# EAGLE library part LM22672 (library m_vreg)
LM22672 1A SIMPLE SWITCHER, Step-Down Voltage Regulator Features: Wide input voltage range: 4.5V to 42V Internally compensated voltage mode control Stable with low ESR ceramic capacitors 200 mΩ N-channel MOSFET Output voltage options: -ADJ (outputs as low as 1.285V) -5.0 (output fixed to 5V) ±1.5% feedback reference accuracy Switching frequency of 500 kHz, adjustable between 200 kHz and 1 MHz -40°C to 125°C operating junction temperature range Precision enable pin Integrated boot diode Adjustable soft-start Fully WEBENCH® enabled Step-down and inverting buck-boost applications LM22672Q is an Automotive Grade product that is AEC- Q100 grade 1 qualified (-40°C to +125°C operating junction temperature) Added 6/5/2012
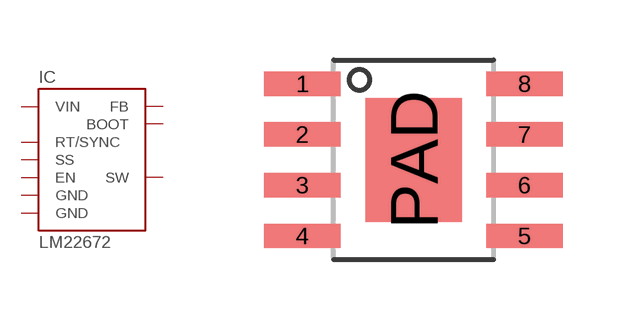
[diagram p7: symbol with the pads of PSOP-8; footprint PSOP-8]

Designator prefix IC

## LM22672MR (MANUF: TI; PARTNUM: LM22672XMRX-XXX)  [PSOP-8]
1  BOOT
2  SS
3  RT/SYNC
4  FB
5  EN
6  GND
7  VIN
8  SW
PAD  GND

## Footprint PSOP-8 (pad centres in mm)
8-Lead Plastic PSOP-8 Package NS Package Number MRA08B From LM22672 datasheet, added 6/5/2012
smd 1.91 x 0.61: 1 -2.78,1.905; 2 -2.78,0.635; 3 -2.78,-0.635; 4 -2.78,-1.905; 5 2.78,-1.905; 6 2.78,-0.635; 7 2.78,0.635; 8 2.78,1.905
smd 2.41 x 3.1: PAD 0,0